# EAGLE library part PSS254_10 (library PS254_Reichelt)
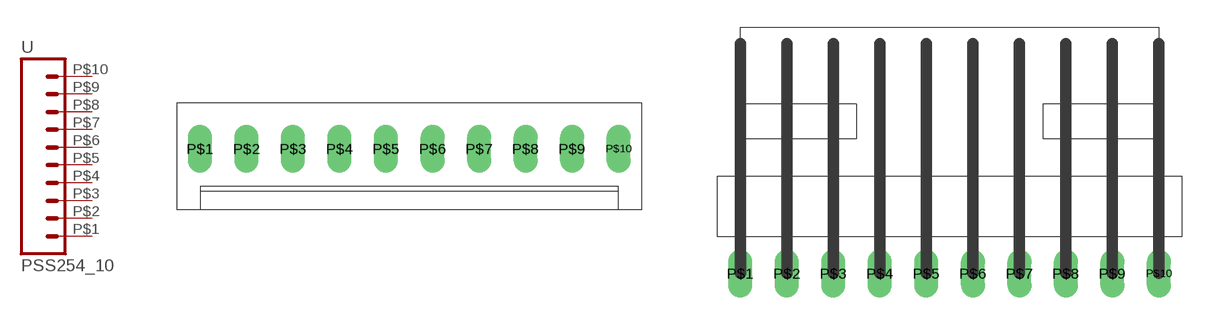
[diagram p0: symbol with the pads of 10G; footprints 10G, 10W]

Designator prefix -

## PSS254_10GERADE  [10G]
P$1  1  pas
P$2  2  pas
P$3  3  pas
P$4  4  pas
P$5  5  pas
P$6  6  pas
P$7  7  pas
P$8  8  pas
P$9  9  pas
P$10  10  pas

## PSS254_10GEWINKELT  [10W]
Pads as for 10G

## Footprint 10G (pad centres in mm)
drill 0.8 long: P$1 1.27,3.31; P$2 3.81,3.31; P$3 6.35,3.31; P$4 8.89,3.31; P$5 11.43,3.31; P$6 13.97,3.31; P$7 16.51,3.31; P$8 19.05,3.31; P$9 21.59,3.31; P$10 24.13,3.31

## Footprint 10W (pad centres in mm)
drill 0.8 long: P$1 1.27,-2.032; P$2 3.81,-2.032; P$3 6.35,-2.032; P$4 8.89,-2.032; P$5 11.43,-2.032; P$6 13.97,-2.032; P$7 16.51,-2.032; P$8 19.05,-2.032; P$9 21.59,-2.032; P$10 24.13,-2.032